# Altium schematic symbol library LT1639CS#PBF.SchLib: 1 symbol
Pins are listed as number, name and electrical type; pins without a type are passive.

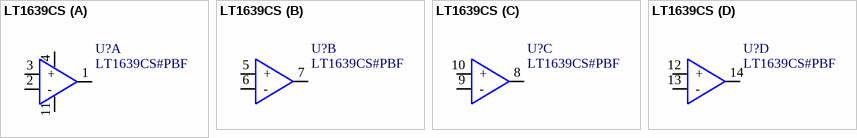
[diagram p0: symbol LT1639CS]

## LT1639CS
designator U?, comment LT1639CS#PBF
IC OPAMP GP 4 CIRCUIT 14SO; MF: Analog Devices; Supplier Part Number 2: LT1639CS#PBF-ND; MPN: LT1639CS#PBF; Supplier Part Number 1: 584-LT1639CS#PBF; Package: SO-14; Supplier 1: Mouser; Supplier 2: Digikey
footprint SOIC-14 (SOIC, 14-Leads, Body 8.7x3.9mm, Pitch 1.27mm, IPC Medium Density)
part A pins: 1, 2 -, 3 +, 4 V+, 11 V-
part B pins: 5 +, 6 -, 7
part C pins: 8, 9 -, 10 +
part D pins: 12 +, 13 -, 14